# Altium schematic symbol library DCT.SchLib: 19 symbols
Pins are listed as number, name and electrical type; pins without a type are passive.

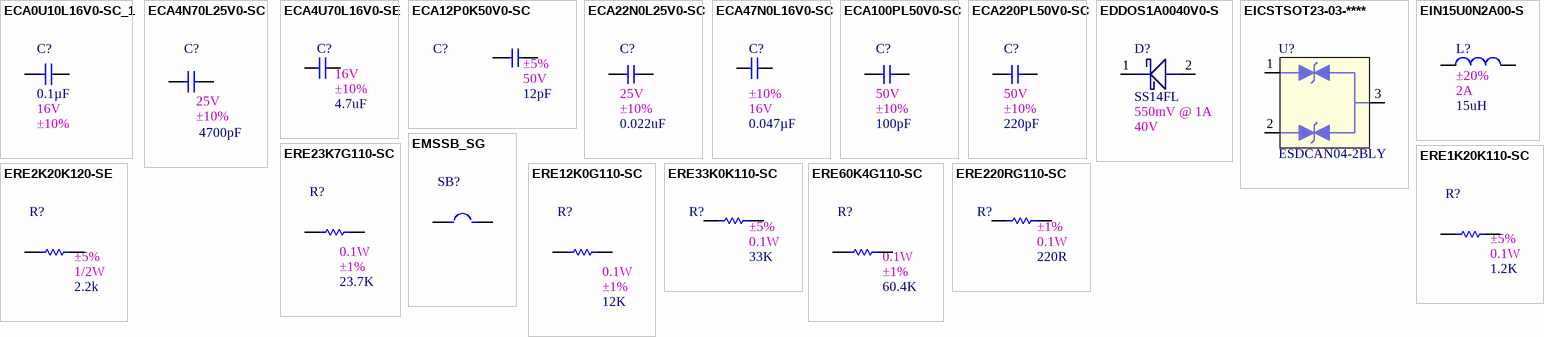
[diagram p0: symbols ECA0U10L16V0-SC_1 to ERE220RG110-SC]

## ECA0U10L16V0-SC_1
designator C?, comment value 0.1µF  1st Auxiliary Field: 16V  2nd Auxiliary Field: ±10%  (hidden comment: CAP CER 0.1UF 16V X7R 0603)
Manufacturer Part Number: EMK107B7104KAHT; Manufacturer: Taiyo Yuden; Internal Part Number: ECA0U10L16V0-SC_1; Vendor Part Number: 587-6004-1-ND; 3rd Auxiliary Field: RoHS Compliant; Component Height (mm): 0.90mm; Temp Co: -55°C ~ 125°C; 4th Auxiliary Field: AEC-Q200; Vendor Name: Digi-Key; Part Type: CAP CER 0.1UF 16V X7R 0603
footprint SMDC0603
pins: 1, 2

## ECA4N70L25V0-SC
designator C?, comment value 4700pF  1st Auxiliary Field: 25V  2nd Auxiliary Field: ±10%  (hidden comment: CAP CER 4700PF 25V X7R 0603)
Manufacturer Part Number: AC0603KRX7R8BB472; Manufacturer: Yageo; Internal Part Number: ECA4N70L25V0-SC; Vendor Part Number: 311-3114-1-ND; 3rd Auxiliary Field: RoHS Compliant; Component Height (mm): 0.90mm; Temp Co: -55°C ~ 125°C; 4th Auxiliary Field: AEC-Q200; Vendor Name: Digi-Key; Part Type: CAP CER 4700PF 25V X7R 0603
footprint SMDC0603
pins: 1, 2

## ECA4U70L16V0-SE
designator C?, comment value 4.7uF  1st Auxiliary Field: 16V  2nd Auxiliary Field: ±10%  (hidden comment: CAP CER 4.7UF 16V X7R 0805)
Manufacturer Part Number: C0805C475K4RACAUTO; Manufacturer: KEMET; Internal Part Number: ECA4U70L16V0-SE; Vendor Part Number: 399-15711-1-ND; 3rd Auxiliary Field: RoHS Compliant; Component Height (mm): 1.40mm; Temp Co: -55°C ~ 125°C; 4th Auxiliary Field: AEC-Q200; Vendor Name: Digi-Key; Part Type: CAP CER 4.7UF 16V X7R 0805
footprint SMDC0805
pins: 1, 2

## ECA12P0K50V0-SC
designator C?, comment value 12pF  1st Auxiliary Field: 50V  2nd Auxiliary Field: ±5%  (hidden comment: CAP CER 12PF 50V C0G/NP0 0603)
Manufacturer: Samsung Electro-Mechanics; Manufacturer Part Number: CL10C120JB81PNC; Internal Part Number: ECA12P0K50V0-SC; Vendor Part Number: 1276-2176-1-ND; Temp Co: -55°C ~ 125°C; 3rd Auxiliary Field: RoHS Compliant; Component Height (mm): 0.90mm; 4th Auxiliary Field: AEC-Q200; Vendor Name: Digi-Key; Part Type: CAP CER 12PF 50V C0G/NP0 0603
footprint SMDC0603
pins: 1, 2

## ECA22N0L25V0-SC
designator C?, comment value 0.022uF  1st Auxiliary Field: 25V  2nd Auxiliary Field: ±10%  (hidden comment: CAP CER 0.022UF 25V X7R 0603)
Manufacturer: Taiyo Yuden; Manufacturer Part Number: TMK107B7223KAHT; Internal Part Number: ECA22N0L25V0-SC; Vendor Part Number: 587-3469-1-ND; Temp Co: -55°C ~ 125°C; 3rd Auxiliary Field: RoHS Compliant; Component Height (mm): 0.90mm; 4th Auxiliary Field: AEC-Q200; Vendor Name: Digi-Key; Part Type: CAP CER 0.022UF 25V X7R 0603
footprint SMDC0603
pins: 1, 2

## ECA47N0L16V0-SC
designator C?, comment value 0.047µF  2nd Auxiliary Field: ±10%  1st Auxiliary Field: 16V  (hidden comment: CAP CER 0.047UF 16V X7R 0603)
Manufacturer: Taiyo Yuden; Vendor Part Number: 587-3306-1-ND; Manufacturer Part Number: EMK107B7473KAHT; Internal Part Number: ECA47N0L16V0-SC; Vendor Name: Digi-Key; 3rd Auxiliary Field: RoHS Compliant; 4th Auxiliary Field: AEC-Q200; Component Height (mm): 0.90mm; Temp Co: -55°C ~ 125°C; Part Type: CAP CER 0.047UF 16V X7R 0603
footprint SMDC0603
pins: 1, 2

## ECA100PL50V0-SC
designator C?, comment value 100pF  1st Auxiliary Field: 50V  2nd Auxiliary Field: ±10%  (hidden comment: CAP CER 100PF 50V X7R 0603)
Manufacturer: KEMET; Manufacturer Part Number: C0603C101K5RACAUTO; Internal Part Number: ECA100PL50V0-SC; Vendor Part Number: 399-17391-1-ND; Temp Co: -55°C ~ 125°C; 3rd Auxiliary Field: RoHS Compliant; Component Height (mm): 0.87mm; 4th Auxiliary Field: AEC-Q200; Vendor Name: Digi-Key; Part Type: CAP CER 100PF 50V X7R 0603
footprint SMDC0603
pins: 1, 2

## ECA220PL50V0-SC
designator C?, comment value 220pF  1st Auxiliary Field: 50V  2nd Auxiliary Field: ±10%  (hidden comment: CAP CER 220PF 50V X7R 0603)
Manufacturer: KEMET; Manufacturer Part Number: C0603C221K5RACAUTO; Internal Part Number: ECA220PL50V0-SC; Vendor Part Number: 399-6869-1-ND; Temp Co: -55°C ~ 125°C; 3rd Auxiliary Field: RoHS Compliant; Component Height (mm): 0.87mm; 4th Auxiliary Field: AEC-Q200; Vendor Name: Digi-Key; Part Type: CAP CER 220PF 50V X7R 0603
footprint SMDC0603
pins: 1, 2

## EDDOS1A0040V0-S
designator D?, comment value SS14FL  2nd Auxiliary Field: 550mV @ 1A  1st Auxiliary Field: 40V  (hidden comment: DIODE SCHOTTKY 40V 1A SOD123F)
Manufacturer: ON Semiconductor; Vendor Part Number: SS14FLCT-ND; Internal Part Number: EDDOS1A0040V0-S; 3rd Auxiliary Field: ROHS3 Compliant; 4th Auxiliary Field: AEC-Q101; Vendor Name: Digi-Key; Component Height (mm): 1.08mm; Temp Co: -55°C ~ 125°C; Part Type: DIODE SCHOTTKY 40V 1A SOD123F; Manufacturer Part Number: SS14FL
footprint SOD3628X108N (SS24FL, DIODE SCHOTTKY 40V 2A SOD123F)
pins: 1 K, 2 A

## EICSTSOT23-03-****
designator U?, comment value ESDCAN04-2BLY  (hidden comment: AUTOMOTIVE DUAL-LINE TVS IN SOT2)
Manufacturer: STMicroelectronics; Vendor Part Number: 497-19089-1-ND; Internal Part Number: EICSTSOT23-03-****; Vendor Name: Digi-Key; 3rd Auxiliary Field: RoHS Compliant; 4th Auxiliary Field: AEC-Q101; Component Height (mm): 1.25mm; Temp Co: -40°C ~ 150°C (TJ); 2nd Auxiliary Field: 17pF @ 1MHz; 1st Auxiliary Field: 25.5V; Part Type: AUTOMOTIVE DUAL-LINE TVS IN SOT2; Manufacturer Part Number: ESDCAN04-2BLY
footprint SOT190P264X112-3N (TL431CDBZR Shunt Voltage Reference IC 36V ±2.2% 100mA TO-236-3, SC-59, SOT-23-3)
pins: 1, 2, 3

## EIN15U0N2A00-S
designator L?, comment value 15uH  2nd Auxiliary Field: ±20%  1st Auxiliary Field: 2A  (hidden comment: FIXED IND 15UH 1.8A 104 MOHM SMD)
Manufacturer: Taiyo Yuden; Vendor Part Number: 587-6108-1-ND; Manufacturer Part Number: NRS5040T150MMGJV; Internal Part Number: EIN15U0N2A00-S; Vendor Name: Digi-Key; 3rd Auxiliary Field: RoHS Compliant; 4th Auxiliary Field: AEC-Q200; Component Height (mm): 4.00mm; Temp Co: -40°C ~ 125°C; Part Type: FIXED IND 15UH 1.8A 104 MOHM SMD
footprint IND_NRS5030T3R3MMGJ (NRS5030T3R3MMGJ, FIXED IND 3.3UH 3A 30 MOHM SMD)
pins: 1, 2

## EMSSB_SG
designator SB?, comment Solder Bridge  (value not drawn)  (net tie, no BOM)
Internal Part Number: EMSSB_SG; Component Height (mm): 0mm; Manufacturer Part Number: Solder Bridge; Part Type: *; Manufacturer: *; 3rd Auxiliary Field: *; 4th Auxiliary Field: *; Vendor Name: *; Vendor Part Number: Solder Bridge; Temp Co: *; 1st Auxiliary Field: *; 2nd Auxiliary Field: *
footprint SB_1206
pins: 1, 2

## ERE1K20K110-SC
designator R?, comment value 1.2K  2nd Auxiliary Field: ±5%  1st Auxiliary Field: 0.1W  (hidden comment: RES SMD 1.2K OHM 5% 1/10W 0603)
Manufacturer: Panasonic Electronic Components; Vendor Part Number: P1.2KGCT-ND; Manufacturer Part Number: ERJ-3GEYJ122V; Internal Part Number: ERE1K20K110-SC; Vendor Name: Digi-Key; 3rd Auxiliary Field: RoHS Compliant; 4th Auxiliary Field: AEC-Q200; Component Height (mm): 0.55mm; Temp Co: -55°C ~ 155°C; Part Type: RES SMD 1.2K OHM 5% 1/10W 0603
footprint SMDR0603
pins: 1, 2

## ERE2K20K120-SE
designator R?, comment value 2.2k  2nd Auxiliary Field: ±5%  1st Auxiliary Field: 1/2W  (hidden comment: RES SMD 2.2K OHM 5% 1/2W 0805)
Manufacturer: Panasonic Electronic Components; Vendor Part Number: P2.2KADCT-ND; Manufacturer Part Number: ERJ-P06J222V; Internal Part Number: ERE2K20K120-SE; Vendor Name: Digi-Key; 3rd Auxiliary Field: RoHS Compliant; 4th Auxiliary Field: AEC-Q200; Component Height (mm): 0.70mm; Temp Co: -55°C ~ 155°C; Part Type: RES SMD 2.2K OHM 5% 1/2W 0805
footprint SMDR0805 (Footprint not found)
pins: 1, 2

## ERE12K0G110-SC
designator R?, comment value 12K  1st Auxiliary Field: 0.1W  2nd Auxiliary Field: ±1%  (hidden comment: RES SMD 12K OHM 1% 1/10W 0603)
Manufacturer Part Number: ERJ-3EKF1202V; Manufacturer: Panasonic Electronic Components; Internal Part Number: ERE12K0G110-SC; Vendor Part Number: P12.0KHCT-ND; Component Height (mm): 0.55mm; 3rd Auxiliary Field: ROHS3 Compliant; 4th Auxiliary Field: AEC-Q200; Vendor Name: Digi-Key; Temp Co: -55°C ~ 155°C; Part Type: RES SMD 12K OHM 1% 1/10W 0603
footprint SMDR0603
pins: 1, 2

## ERE23K7G110-SC
designator R?, comment value 23.7K  1st Auxiliary Field: 0.1W  2nd Auxiliary Field: ±1%  (hidden comment: RES SMD 23.7K OHM 1% 1/10W 0603)
Manufacturer Part Number: ERJ-3EKF2372V; Manufacturer: Panasonic Electronic Components; Internal Part Number: ERE23K7G110-SC; Vendor Part Number: P23.7KHCT-ND; 3rd Auxiliary Field: ROHS3 Compliant; Component Height (mm): 0.55mm; Temp Co: -55°C ~ 155°C; 4th Auxiliary Field: AEC-Q200; Vendor Name: Digi-Key; Part Type: RES SMD 23.7K OHM 1% 1/10W 0603
footprint SMDR0603
pins: 1, 2

## ERE33K0K110-SC
designator R?, comment value 33K  2nd Auxiliary Field: ±5%  1st Auxiliary Field: 0.1W  (hidden comment: RES SMD 33K OHM 5% 1/10W 0603)
Manufacturer: Panasonic Electronic Components; Vendor Part Number: P33KGCT-ND; Manufacturer Part Number: ERJ-3GEYJ333V; Internal Part Number: ERE33K0K110-SC; Vendor Name: Digi-Key; 3rd Auxiliary Field: RoHS Compliant; 4th Auxiliary Field: AEC-Q200; Component Height (mm): 0.55mm; Temp Co: -55°C ~ 155°C; Part Type: RES SMD 33K OHM 5% 1/10W 0603
footprint SMDR0603
pins: 1, 2

## ERE60K4G110-SC
designator R?, comment value 60.4K  1st Auxiliary Field: 0.1W  2nd Auxiliary Field: ±1%  (hidden comment: RES SMD 60.4K OHM 1% 1/10W 0603)
Manufacturer Part Number: ERJ-3EKF6042V; Manufacturer: Panasonic Electronic Components; Internal Part Number: ERE60K4G110-SC; Vendor Part Number: P60.4KHCT-ND; 3rd Auxiliary Field: ROHS3 Compliant; Component Height (mm): 0.55mm; Temp Co: -55°C ~ 155°C; 4th Auxiliary Field: AEC-Q200; Vendor Name: Digi-Key; Part Type: RES SMD 60.4K OHM 1% 1/10W 0603
footprint SMDR0603
pins: 1, 2

## ERE220RG110-SC
designator R?, comment value 220R  2nd Auxiliary Field: ±1%  1st Auxiliary Field: 0.1W  (hidden comment: RES 220 OHM 1% 1/10W 0603)
Manufacturer: Stackpole Electronics Inc; Vendor Part Number: RMCF0603FT220RCT-ND; Manufacturer Part Number: RMCF0603FT220R; Internal Part Number: ERE220RG110-SC; Vendor Name: Digi-Key; 3rd Auxiliary Field: RoHS Compliant; 4th Auxiliary Field: AEC-Q200; Component Height (mm): 0.55mm; Temp Co: -55°C ~ 155°C; Part Type: RES 220 OHM 1% 1/10W 0603
footprint SMDR0603
pins: 1, 2